# EAGLE library part PIC16C73 (library microchip2)
MICROCONTROLLER EPROM/ROM-based
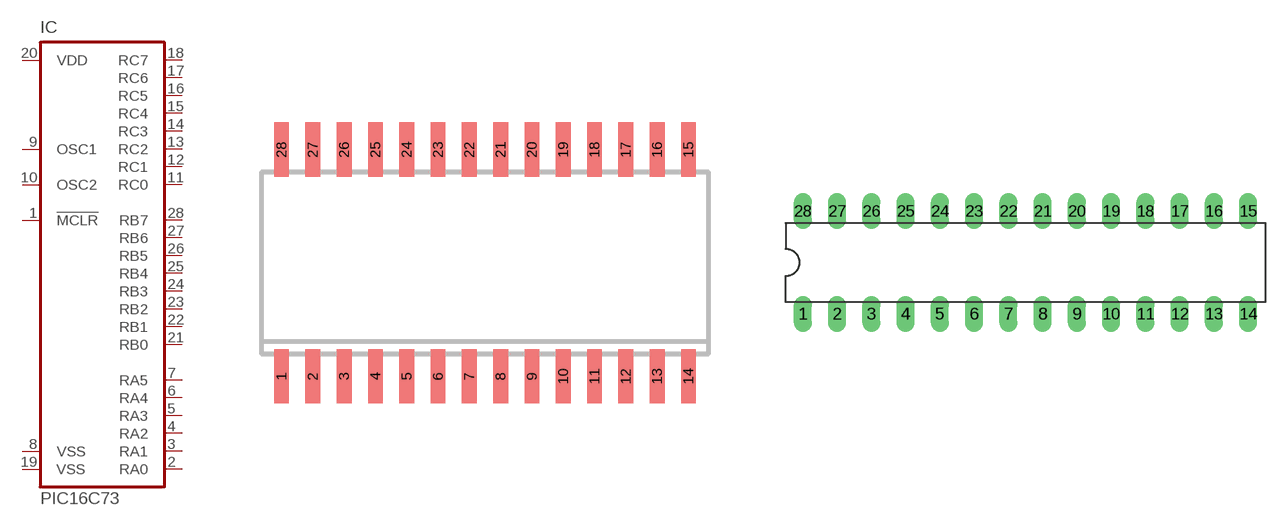
[diagram p18: symbol with the pads of SO28W; footprints SO28W, DIL28-SP]

Designator prefix IC

## PIC16C73SO (MF: MICROCHIP; MPN: PIC16C73B-20/SO; OC_FARNELL: 9759999; OC_NEWARK: 12C1926)  [SO28W]
1  !MCLR  in
2  RA0
3  RA1
4  RA2
5  RA3
6  RA4
7  RA5
8  VSS  pwr
9  OSC1
10  OSC2
11  RC0
12  RC1
13  RC2
14  RC3
15  RC4
16  RC5
17  RC6
18  RC7
19  VSS  pwr
20  VDD  pwr
21  RB0
22  RB1
23  RB2
24  RB3
25  RB4
26  RB5
27  RB6
28  RB7

## PIC16C73P (MF: MICROCHIP; MPN: PIC16C73B-04I/SP; OC_FARNELL: 9759980; OC_NEWARK: 96K3842)  [DIL28-SP]
Pads as for SO28W

## Footprint SO28W (pad centres in mm)
SMALL OUTLINE INTEGRATED CIRCUIT wide body 7.5 mm/JEDEC MO-119AB
smd 0.6 x 2.2: 1 -8.255,-4.6; 2 -6.985,-4.6; 3 -5.715,-4.6; 4 -4.445,-4.6; 5 -3.175,-4.6; 6 -1.905,-4.6; 7 -0.635,-4.6; 8 0.635,-4.6; 9 1.905,-4.6; 10 3.175,-4.6; 11 4.445,-4.6; 12 5.715,-4.6; 13 6.985,-4.6; 14 8.255,-4.6; 15 8.255,4.6; 16 6.985,4.6; 17 5.715,4.6; 18 4.445,4.6; 19 3.175,4.6; 20 1.905,4.6; 21 0.635,4.6; 22 -0.635,4.6; 23 -1.905,4.6; 24 -3.175,4.6; 25 -4.445,4.6; 26 -5.715,4.6; 27 -6.985,4.6; 28 -8.255,4.6

## Footprint DIL28-SP (pad centres in mm)
28-Lead Skinny Plastic Dual In-Line (SP) – 300 mil Body [SPDIP]l
drill 0.813 long: 1 -16.51,-3.81; 2 -13.97,-3.81; 3 -11.43,-3.81; 4 -8.89,-3.81; 5 -6.35,-3.81; 6 -3.81,-3.81; 7 -1.27,-3.81; 8 1.27,-3.81; 9 3.81,-3.81; 10 6.35,-3.81; 11 8.89,-3.81; 12 11.43,-3.81; 13 13.97,-3.81; 14 16.51,-3.81; 15 16.51,3.81; 16 13.97,3.81; 17 11.43,3.81; 18 8.89,3.81; 19 6.35,3.81; 20 3.81,3.81; 21 1.27,3.81; 22 -1.27,3.81; 23 -3.81,3.81; 24 -6.35,3.81; 25 -8.89,3.81; 26 -11.43,3.81; 27 -13.97,3.81; 28 -16.51,3.81